# EAGLE library part ISL43L71X (library OrlandoRonMod)
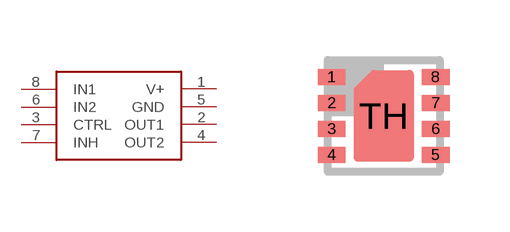
[diagram p9: symbol with the pads of TDFN8-3X3MM; footprint TDFN8-3X3MM]

Designator prefix -

## ISL43L71X  [TDFN8-3X3MM]
1  V+
2  OUT1
3  CTRL
4  OUT2
5  GND
6  IN2
7  INH
8  IN1

## Footprint TDFN8-3X3MM (pad centres in mm)
TDFN 8 pol. 3x3 mm Source: Data sheet <http://datasheets.maxim-ic.com/en/ds/MAX8559.pdf>
smd 0.7 x 0.4: 1 -1.3,0.975; 2 -1.3,0.325; 3 -1.3,-0.325; 4 -1.3,-0.975; 5 1.3,-0.975; 6 1.3,-0.325; 7 1.3,0.325; 8 1.3,0.975
smd 1 x 1: TH 0,0